# Altium schematic symbol library TM_DE_REV1.0.SchLib: 109 symbols
Pins are listed as number, name and electrical type; pins without a type are passive.

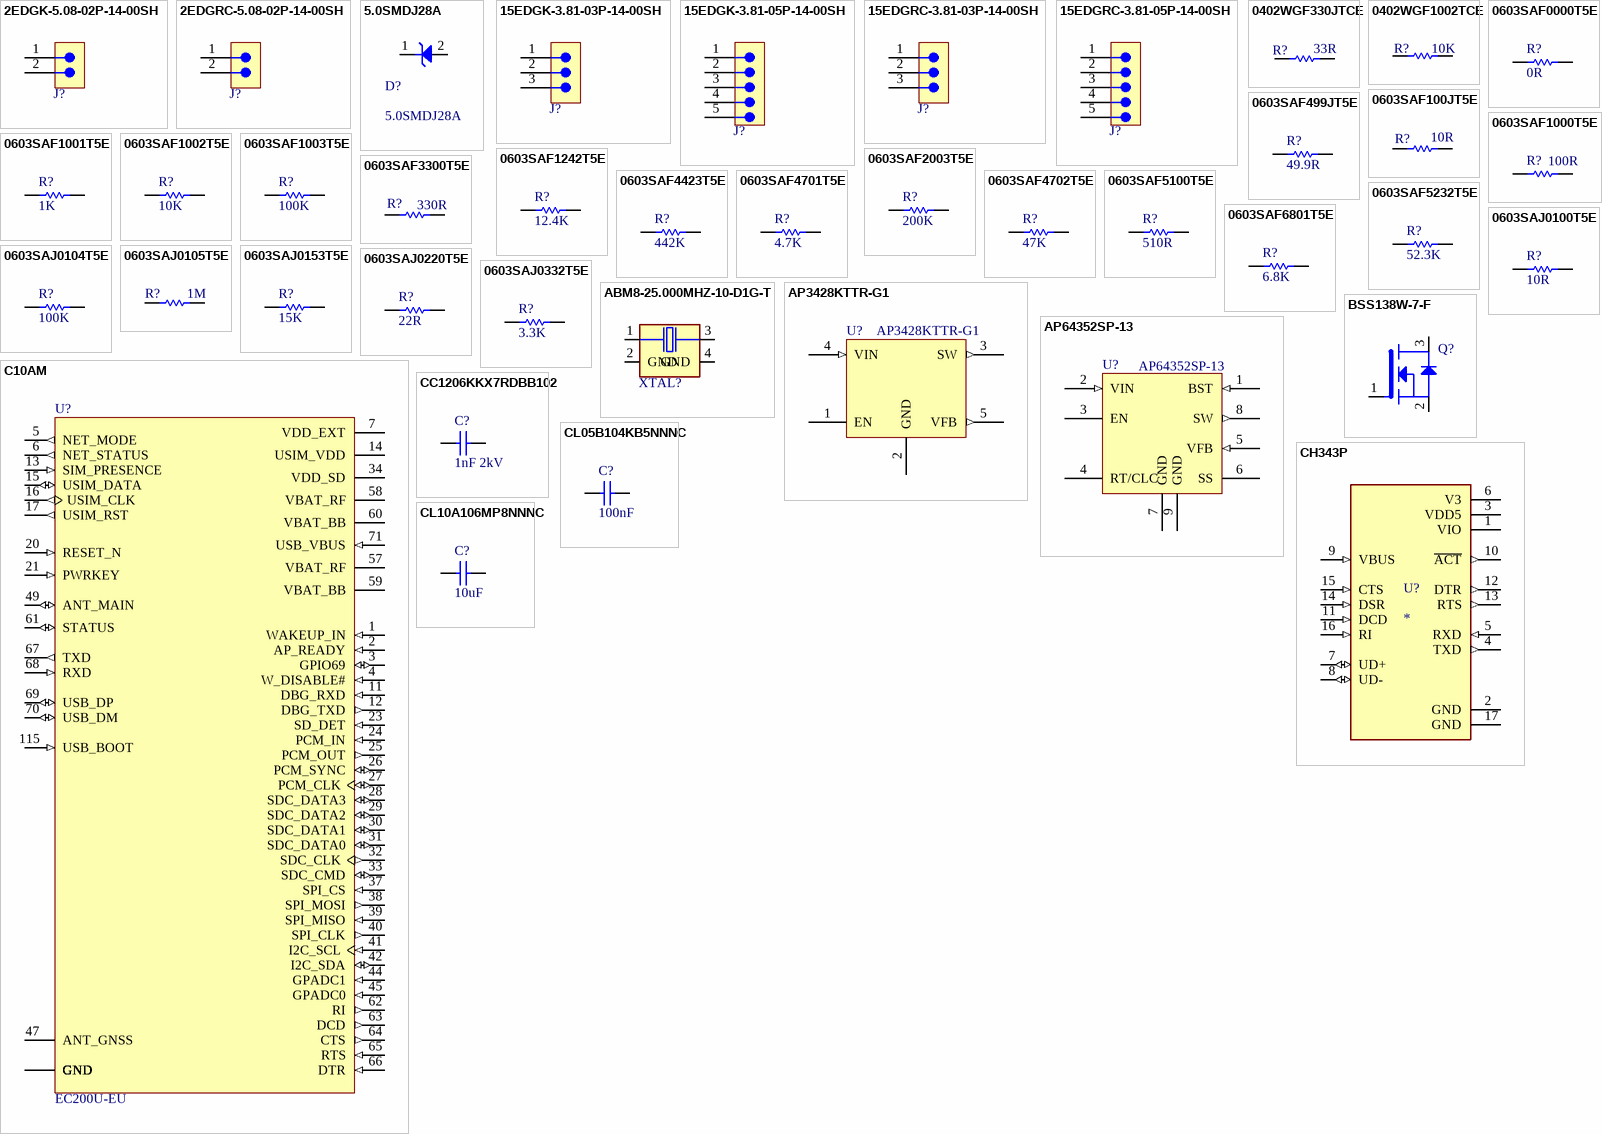
[diagram p0: symbols 2EDGK-5.08-02P-14-00SH to CL10A106MP8NNNC]

## 2EDGK-5.08-02P-14-00SH
designator J?  (value not drawn)
TERM.BLK.5.08MM 2P FEMALE GREEN; Manufacturer: GAOSONG; Manufacturer Part Number: 2EDGK-5.08-02P-14-00SH; Supplier 1: Ozdisan
footprint TERM_BLCK_2P_5.08_90_FEMALE
pins: 1, 2

## 2EDGRC-5.08-02P-14-00SH
designator J?  (value not drawn)
TERM.BLK.5.08MM 2P 90C MALE GREEN CLOSED; Manufacturer: GAOSONG; Manufacturer Part Number: 2EDGRC-5.08-02P-14-00SH; Supplier 1: Ozdisan
footprint TERM_BLCK_2P_5.08_90_MALE
pins: 1, 2

## 5.0SMDJ28A
designator D?
45.4V Clamp 110A Ipp Tvs Diode Surface Mount DO-214AB (SMC); Manufacturer: Bourns Inc.; Datasheet Link: https://www.diodes.com/part/view/SMCJ58A; Height: 2.5mm; Manufacturer Part Number: 5.0SMDJ28A; Mouser Part Number: N/A; Mouser Price/Stock: https://www.mouser.co.uk/ProductDetail/Diodes-Incorporated/SMCJ58A?qs=evjyFmOIEsnFZCuxUMyzBg%3D%3D
footprint SMCJ58A
pins: 1, 2

## 15EDGK-3.81-03P-14-00SH
designator J?  (value not drawn)
TERM.BLK.3.81MM 3P FEMALE GREEN; Manufacturer: GAOSONG; Manufacturer Part Number: 15EDGK-3.81-03P-14-00SH; Supplier 1: Ozdisan; Value: *
footprint TERM_BLCK_3P_3.81_90_FEMALE
pins: 1, 2, 3

## 15EDGK-3.81-05P-14-00SH
designator J?  (value not drawn)
TERM.BLK.3.81MM 5P FEMALE GREEN; Manufacturer: GAOSONG; Manufacturer Part Number: 15EDGK-3.81-05P-14-00SH; Supplier 1: Ozdisan; Value: *
footprint TERM_BLCK_5P_3.81_90_FEMALE
pins: 1, 2, 3, 4, 5

## 15EDGRC-3.81-03P-14-00SH
designator J?  (value not drawn)
TERM.BLK.3.81MM 3P 90C MALE GREEN CLOSED; Manufacturer: GAOSONG; Manufacturer Part Number: 15EDGRC-3.81-03P-14-00SH; Supplier 1: Ozdisan; Value: *
footprint TERM_BLCK_3P_3.81_90_MALE
pins: 1, 2, 3

## 15EDGRC-3.81-05P-14-00SH
designator J?  (value not drawn)
TERM.BLK.3.81MM 5P 90C MALE GREEN CLOSED; Manufacturer: GAOSONG; Manufacturer Part Number: 15EDGRC-3.81-05P-14-00SH; Supplier 1: Ozdisan; Value: *
footprint TERM_BLCK_5P_3.81_90_MALE
pins: 1, 2, 3, 4, 5

## 0402WGF330JTCE
designator R?  value 33R  (hidden comment: 0402WGF330JTCE)
RES.(1005) 0402 33 Ohms 1% 1/16W 200PPM; Manufacturer: ROYALOHM; Supplier 1: Ozdisan; Manufacturer Part Number: 0402WGF330JTCE
footprint RES_0402
pins: 1, 2

## 0402WGF1002TCE
designator R?  value 10K  (hidden comment: 0402WGF1002TCE)
RES.(1005) 0402 10K Ohms 1% 1/16W 100PPM; Manufacturer: ROYALOHM; Supplier 1: Ozdisan; Manufacturer Part Number: 0402WGF1002TCE
footprint RES_0402
pins: 1, 2

## 0603SAF0000T5E
designator R?  value 0R  (hidden comment: 0603SAF0000T5E)
RES.(1608) 0603 0 Ohms 1% 1/10W-S 800PPM; Manufacturer: ROYALOHM; Supplier 1: Ozdisan; Manufacturer Part Number: 0603SAF0000T5E
footprint RES_0603
pins: 1, 2

## 0603SAF100JT5E
designator R?  value 10R  (hidden comment: 0603SAF100JT5E)
RES.(1608) 0603 10 Ohms 1% 1/10W-S 400PPM; Manufacturer: ROYALOHM; Supplier 1: Ozdisan; Manufacturer Part Number: 0603SAF100JT5E
footprint RES_0603
pins: 1, 2

## 0603SAF499JT5E
designator R?  value 49.9R  (hidden comment: 0603SAF499JT5E)
RES.(1608) 0603 49.9 Ohms 1% 1/10W-S 100PPM; Manufacturer: ROYALOHM; Supplier 1: Ozdisan; Manufacturer Part Number: 0603SAF499JT5E
footprint RES_0603
pins: 1, 2

## 0603SAF1000T5E
designator R?  value 100R  (hidden comment: 0603SAF1000T5E)
RES.(1608) 0603 100 Ohms 1% 1/10W-S 200PPM; Manufacturer: ROYALOHM; Supplier 1: Ozdisan; Manufacturer Part Number: 0603SAF1000T5E
footprint RES_0603
pins: 1, 2

## 0603SAF1001T5E
designator R?  value 1K  (hidden comment: 0603SAF1001T5E)
RES.(1608) 0603 1K Ohms 1% 1/10W-S 100PPM; Manufacturer: ROYALOHM; Supplier 1: Ozdisan; Manufacturer Part Number: 0603SAF1001T5E
footprint RES_0603
pins: 1, 2

## 0603SAF1002T5E
designator R?  value 10K  (hidden comment: 0603SAF1002T5E)
RES.(1608) 0603 10K Ohms 1% 1/10W-S 100PPM; Manufacturer: ROYALOHM; Supplier 1: Ozdisan; Manufacturer Part Number: 0603SAF1002T5E
footprint RES_0603
pins: 1, 2

## 0603SAF1003T5E
designator R?  value 100K  (hidden comment: 0603SAF1003T5E)
RES.(1608) 0603 100K Ohms 1% 1/10W-S 100PPM; Manufacturer: ROYALOHM; Supplier 1: Ozdisan; Manufacturer Part Number: 0603SAF1003T5E
footprint RES_0603
pins: 1, 2

## 0603SAF1242T5E
designator R?  value 12.4K  (hidden comment: 0603SAF1242T5E)
RES.(1608) 0603 12.4K Ohms 1% 1/10W-S 100PPM; Manufacturer: ROYALOHM; Supplier 1: Ozdisan; Manufacturer Part Number: 0603SAF1242T5E
footprint RES_0603
pins: 1, 2

## 0603SAF2003T5E
designator R?  value 200K  (hidden comment: 0603SAF2003T5E)
RES.(1608) 0603 200K Ohms 1% 1/10W-S 100PPM; Manufacturer: ROYALOHM; Supplier 1: Ozdisan; Manufacturer Part Number: 0603SAF2003T5E
footprint RES_0603
pins: 1, 2

## 0603SAF3300T5E
designator R?  value 330R  (hidden comment: 0603SAF3300T5E)
RES.(1608) 0603 330 Ohms 1% 1/10W-S 100PPM; Manufacturer: ROYALOHM; Supplier 1: Ozdisan; Manufacturer Part Number: 0603SAF3300T5E
footprint RES_0603
pins: 1, 2

## 0603SAF4423T5E
designator R?  value 442K  (hidden comment: 0603SAF4423T5E)
RES.(1608) 0603 442K Ohms 1% 1/10W-S 100PPM; Manufacturer: ROYALOHM; Supplier 1: Ozdisan; Manufacturer Part Number: 0603SAF4423T5E
footprint RES_0603
pins: 1, 2

## 0603SAF4701T5E
designator R?  value 4.7K  (hidden comment: 0603SAF4701T5E)
RES.(1608) 0603 4.7K Ohms 1% 1/10W-S 100PPM; Manufacturer: ROYALOHM; Supplier 1: Ozdisan; Manufacturer Part Number: 0603SAF4701T5E
footprint RES_0603
pins: 1, 2

## 0603SAF4702T5E
designator R?  value 47K  (hidden comment: 0603SAF4702T5E)
RES.(1608) 0603 47K Ohms 1% 1/10W-S 100PPM; Manufacturer: ROYALOHM; Supplier 1: Ozdisan; Manufacturer Part Number: 0603SAF4702T5E
footprint RES_0603
pins: 1, 2

## 0603SAF5100T5E
designator R?  value 510R  (hidden comment: 0603SAF5100T5E)
RES.(1608) 0603 510 Ohms 1% 1/10W-S 100PPM; Manufacturer: ROYALOHM; Supplier 1: Ozdisan; Manufacturer Part Number: 0603SAF5100T5E
footprint RES_0603
pins: 1, 2

## 0603SAF5232T5E
designator R?  value 52.3K  (hidden comment: 0603SAF5232T5E)
RES.(1608) 0603 52.3K Ohms 1% 1/10W-S 100PPM; Manufacturer: ROYALOHM; Supplier 1: Ozdisan; Manufacturer Part Number: 0603SAF5232T5E
footprint RES_0603
pins: 1, 2

## 0603SAF6801T5E
designator R?  value 6.8K  (hidden comment: 0603SAF6801T5E)
RES.(1608) 0603 6.8K Ohms 1% 1/10W-S 100PPM; Manufacturer: ROYALOHM; Supplier 1: Ozdisan; Manufacturer Part Number: 0603SAF6801T5E
footprint RES_0603
pins: 1, 2

## 0603SAJ0100T5E
designator R?  value 10R  (hidden comment: 0603SAJ0100T5E)
RES.(1608) 0603 10 Ohms 5% 1/10W-S 400PPM; Manufacturer: ROYALOHM; Supplier 1: Ozdisan; Manufacturer Part Number: 0603SAJ0100T5E
footprint RES_0603
pins: 1, 2

## 0603SAJ0104T5E
designator R?  value 100K  (hidden comment: 0603SAJ0104T5E)
RES.(1608) 0603 100K Ohms 5% 1/10W-S 100PPM; Manufacturer: ROYALOHM; Supplier 1: Ozdisan; Manufacturer Part Number: 0603SAJ0104T5E
footprint RES_0603
pins: 1, 2

## 0603SAJ0105T5E
designator R?  value 1M  (hidden comment: 0603SAJ0105T5E)
RES.(1608) 0603 1M Ohms 5% 1/10W-S 100PPM; Manufacturer: ROYALOHM; Supplier 1: Ozdisan; Manufacturer Part Number: 0603SAJ0105T5E
footprint RES_0603
pins: 1, 2

## 0603SAJ0153T5E
designator R?  value 15K  (hidden comment: 0603SAJ0153T5E)
RES.(1608) 0603 15K Ohms 5% 1/10W-S 100PPM; Manufacturer: ROYALOHM; Supplier 1: Ozdisan; Manufacturer Part Number: 0603SAJ0153T5E
footprint RES_0603
pins: 1, 2

## 0603SAJ0220T5E
designator R?  value 22R  (hidden comment: 0603SAJ0220T5E)
RES.(1608) 0603 22 Ohms 5% 1/10W-S 200PPM; Manufacturer: ROYALOHM; Supplier 1: Ozdisan; Manufacturer Part Number: 0603SAJ0220T5E
footprint RES_0603
pins: 1, 2

## 0603SAJ0332T5E
designator R?  value 3.3K  (hidden comment: 0603SAJ0332T5E)
RES.(1608) 0603 3.3K Ohms 5% 1/10W-S 100PPM; Manufacturer: ROYALOHM; Supplier 1: Ozdisan; Manufacturer Part Number: 0603SAJ0332T5E
footprint RES_0603
pins: 1, 2

## ABM8-25.000MHZ-10-D1G-T
designator XTAL?  (value not drawn)
CRYSTAL 25.0000MHZ 10PF SMD; Manufacturer: RALTRON; Value: 25 MHz; Manufacturer Part Number: ABM8-25.000MHZ-10-D1G-T; Supplier 1: OZDISAN
footprint XTAL_ABM8G-25.000MHZ-4Y-T3
pins: 1, 2 GND (power), 3 2, 4 GND (power)

## AP3428KTTR-G1
designator U?
Buck Switching Regulator IC Positive Adjustable 0.6V 1 Output 1A SOT-23-5 Thin, TSOT-23-5; Manufacturer: Diodes Incorporated; Value: *; Supplier 1: DIGIKEY; Manufacturer Part Number: AP3428KTTR-G1
footprint TSOT_23_5 (SOT95P280X100-5N)
pins: 1 EN, 2 GND, 3 SW (out), 4 VIN (in), 5 VFB (out)

## AP64352SP-13
designator U?
Buck Switching Regulator IC Positive Adjustable 0.8V 1 Output 3.5A 8-SOIC (0.154", 3.90mm Width) Exposed Pad; Manufacturer: Diodes Incorporated; Value: *; Supplier 1: DIGIKEY; Manufacturer Part Number: AP64352SP-13
footprint SOIC_8_EXP (SOIC127P600X170-9N)
pins: 1 BST (in), 2 VIN (in), 3 EN, 4 RT/CLC, 5 VFB (in), 6 SS, 7 GND, 8 SW (out), 9 GND

## BSS138W-7-F
designator Q?  (value not drawn)
MOSFET DIS.200mA 50V N-CH SC70-3; Manufacturer: DIODES; Value: *; Supplier 1: OZDISAN; Manufacturer Part Number: BSS138W-7-F
footprint SOT323
pins: 1 G, 2 S, 3 D

## C10AM
designator U?, comment EC200U-EU
EC200U Moudle 144PIN 28x31mm H2.4mm RO; Manufacturer: Quectel; Value: EC200U-EU; Manufacturer Part Number: EC200U-EU
footprint C10AM
pins: 1 WAKEUP_IN (in), 2 AP_READY (in), 3 GPIO69 (io), 4 W_DISABLE# (in), 5 NET_MODE (out), 6 NET_STATUS (out), 7 VDD_EXT (power), 8 GND (power), 9 GND (power), 10 GND (power), 11 DBG_RXD (in), 12 DBG_TXD (out), 13 SIM_PRESENCE (in), 14 USIM_VDD (power), 15 USIM_DATA (io), 16 USIM_CLK (out), 17 USIM_RST (out), 19 GND (power), 20 RESET_N (in), 21 PWRKEY (in), 22 GND (power), 23 SD_DET (in), 24 PCM_IN (in), 25 PCM_OUT (out), 26 PCM_SYNC (io), 27 PCM_CLK (io), 28 SDC_DATA3 (io), 29 SDC_DATA2 (io), 30 SDC_DATA1 (io), 31 SDC_DATA0 (io), 32 SDC_CLK (out), 33 SDC_CMD (io), 34 VDD_SD (power), 36 GND (power), 37 SPI_CS (in), 38 SPI_MOSI (out), 39 SPI_MISO (in), 40 SPI_CLK (out), 41 I2C_SCL (in), 42 I2C_SDA (io), 44 GPADC1 (in), 45 GPADC0 (in), 46 GND (power), 47 ANT_GNSS, 48 GND (power), 49 ANT_MAIN (io), 50 GND (power), 51 GND (power), 52 GND (power), 53 GND (power), 54 GND (power), 56 GND (power), 57 VBAT_RF (power), 58 VBAT_RF (power), 59 VBAT_BB (power), 60 VBAT_BB (power), 61 STATUS (io), 62 RI (out), 63 DCD (out), 64 CTS (out), 65 RTS (in), 66 DTR (in), 67 TXD (out), 68 RXD (in), 69 USB_DP (io), 70 USB_DM (io), 71 USB_VBUS (in), 72 GND (power), 85 GND (power), 86 GND (power), 87 GND (power), 88 GND (power), 89 GND (power), 90 GND (power), 91 GND (power), 92 GND (power), 93 GND (power), 94 GND (power), 95 GND (power), 96 GND (power), 97 GND (power), 98 GND (power), 99 GND (power), 100 GND (power), 101 GND (power), 102 GND (power), 103 GND (power), 104 GND (power), 105 GND (power), 106 GND (power), 107 GND (power), 108 GND (power), 109 GND (power), 110 GND (power), 111 GND (power), 112 GND (power), 115 USB_BOOT (in)

## CC1206KKX7RDBB102
designator C?  value 1nF 2kV  (hidden comment: CC1206KKX7RDBB102)
MLCC (3216) 1206 1nF 2000VDC ±10% X7R; Manufacturer: SAMSUNG; Supplier 1: OZDISAN; Manufacturer Part Number: CC1206KKX7RDBB102
footprint CAP_1206
pins: 1, 2

## CH343P
designator U?
USB to High-Speed Serial Chip CH343; Manufacturer: WCH; Manufacturer Part Number: CH343P; SnapEDA_Link: https://www.snapeda.com/parts/CH343P/WCH/view-part/?ref=snap; Package: Package; Value: *; Check_prices: https://www.snapeda.com/parts/CH343P/WCH/view-part/?ref=eda
footprint QFN50P300X300X80-17N (Footprint not found)
pins: 1 VIO (power), 2 GND (power), 3 VDD5 (power), 4 TXD (out), 5 RXD (in), 6 V3 (power), 7 UD+ (io), 8 UD- (io), 9 VBUS (in), 10 ~{ACT} (out), 11 DCD (in), 12 DTR (out), 13 RTS (out), 14 DSR (in), 15 CTS (in), 16 RI (in), 17 GND (power)

## CL05B104KB5NNNC
designator C?  value 100nF  (hidden comment: CL05B104KB5NNNC)
MLCC (1005) 0402 100nF 50VDC ±10% X7R; Manufacturer: SAMSUNG; Supplier 1: OZDISAN; Manufacturer Part Number: CL05B104KB5NNNC
footprint CAP_0402
pins: 1, 2

## CL10A106MP8NNNC
designator C?  value 10uF  (hidden comment: CL10A106MP8NNNC)
MLCC (1608) 0603 10uF 10VDC ±20% X5R; Manufacturer: SAMSUNG; Supplier 1: OZDISAN; Manufacturer Part Number: CL10A106MP8NNNC
footprint CAP_0603
pins: 1, 2

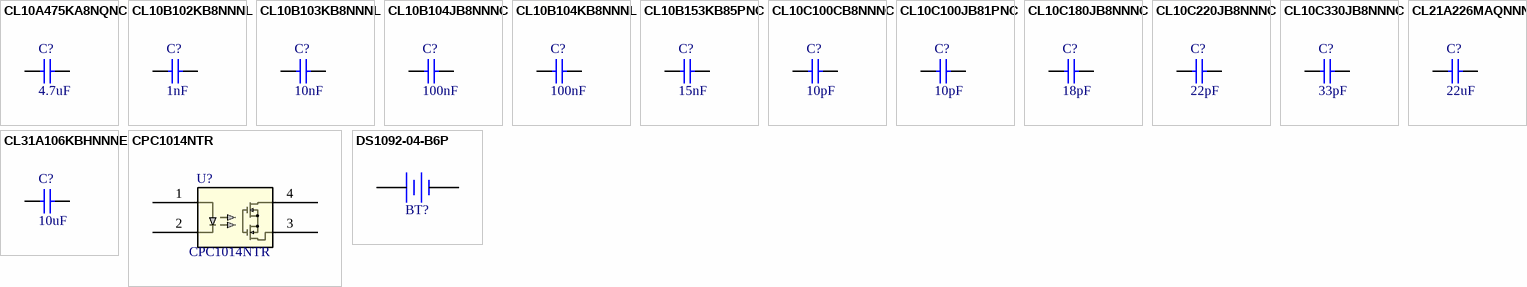
[diagram p1: symbols CL10A475KA8NQNC to DS1092-04-B6P]

## CL10A475KA8NQNC
designator C?  value 4.7uF  (hidden comment: CL10A475KA8NQNC)
MLCC (1608) 0603 4.7uF 25VDC ±10% X5R; Manufacturer: Samsung Electro-Mechanics America, Inc; Supplier 1: OZDISAN; Manufacturer Part Number: CL10A475KA8NQNC
footprint CAP_0603
pins: 1, 2

## CL10B102KB8NNNL
designator C?  value 1nF  (hidden comment: CL10B102KB8NNNL)
MLCC (1608) 0603 1nF 50VDC ±10% X7R; Manufacturer: SAMSUNG; Supplier 1: OZDISAN; Manufacturer Part Number: CL10B102KB8NNNL
footprint CAP_0603
pins: 1, 2

## CL10B103KB8NNNL
designator C?  value 10nF  (hidden comment: CL10B103KB8NNNL)
MLCC (1608) 0603 10nF 50VDC ±10% X7R; Manufacturer: SAMSUNG; Supplier 1: OZDISAN; Manufacturer Part Number: CL10B103KB8NNNL
footprint CAP_0603
pins: 1, 2

## CL10B104JB8NNNC
designator C?  value 100nF  (hidden comment: CL10B104JB8NNNC)
MLCC (1608) 0603 100nF 50VDC ±5% X7R; Manufacturer: SAMSUNG; Supplier 1: OZDISAN; Manufacturer Part Number: CL10B104JB8NNNC
footprint CAP_0603
pins: 1, 2

## CL10B104KB8NNNL
designator C?  value 100nF  (hidden comment: CL10B104KB8NNNL)
MLCC (1608) 0603 100nF 50VDC ±10% X7R; Manufacturer: Samsung Electro-Mechanics America, Inc; Supplier 1: OZDISAN; Manufacturer Part Number: CL10B104KB8NNNL
footprint CAP_0603
pins: 1, 2

## CL10B153KB85PNC
designator C?  value 15nF  (hidden comment: CL10B153KB85PNC)
MLCC (1608) 0603 15nF 50VDC ±10% X7R AUTOMOTIVE; Manufacturer: SAMSUNG; Supplier 1: OZDISAN; Manufacturer Part Number: CL10B153KB85PNC
footprint CAP_0603
pins: 1, 2

## CL10C100CB8NNNC
designator C?  value 10pF  (hidden comment: CL10C100CB8NNNC)
MLCC (1608) 0603 10pF 50VDC ±0.25pF C0G (NP0); Manufacturer: SAMSUNG; Supplier 1: Ozdisan; Manufacturer Part Number: CL10C100CB8NNNC
footprint CAP_0603
pins: 1, 2

## CL10C100JB81PNC
designator C?  value 10pF  (hidden comment: CL10C100JB81PNC)
MLCC (1608) 0603 10pF 50VDC ±5% C0G (NP0); Manufacturer: SAMSUNG; Supplier 1: Ozdisan; Manufacturer Part Number: CL10C100JB81PNC
footprint CAP_0603
pins: 1, 2

## CL10C180JB8NNNC
designator C?  value 18pF  (hidden comment: CL10C180JB8NNNC)
MLCC (1608) 0603 18pF 50VDC ±5% C0G (NP0); Manufacturer: Samsung Electro-Mechanics America, Inc; Supplier 1: OZDISAN; Manufacturer Part Number: CL10C180JB8NNNC
footprint CAP_0603
pins: 1, 2

## CL10C220JB8NNNC
designator C?  value 22pF  (hidden comment: CL10C220JB8NNNC)
MLCC (1608) 0603 22pF 50VDC ±5% C0G (NP0); Manufacturer: Samsung Electro-Mechanics America, Inc; Supplier 1: OZDISAN; Manufacturer Part Number: CL10C220JB8NNNC
footprint CAP_0603
pins: 1, 2

## CL10C330JB8NNNC
designator C?  value 33pF  (hidden comment: CL10C330JB8NNNC)
MLCC (1608) 0603 33pF 50VDC ±5% C0G (NP0); Manufacturer: Samsung Electro-Mechanics America, Inc; Supplier 1: OZDISAN; Manufacturer Part Number: CL10C330JB8NNNC
footprint CAP_0603
pins: 1, 2

## CL21A226MAQNNNE
designator C?  value 22uF  (hidden comment: CL21A226MAQNNNE)
MLCC (2012) 0805 22uF 25VDC ±20% X5R; Manufacturer: SAMSUNG; Supplier 1: OZDISAN; Manufacturer Part Number: CL21A226MAQNNNE
footprint CAP_0805
pins: 1, 2

## CL31A106KBHNNNE
designator C?  value 10uF  (hidden comment: CL31A106KBHNNNE)
MLCC (3216) 1206 10uF 50VDC ±10% X5R; Manufacturer: SAMSUNG; Supplier 1: OZDISAN; Manufacturer Part Number: CL31A106KBHNNNE
footprint CAP_1206
pins: 1, 2

## CPC1014NTR
designator U?
RELAY SOLID STATE 400mA 0-60V SPST-NO(1FormA); Manufacturer: IXYS CLARE; Value: *; Supplier 1: OZDISAN; Manufacturer Part Number: CPC1014NTR
footprint CPC1014N_IXY-M
pins: 1, 2, 3, 4

## DS1092-04-B6P
designator BT?  (value not drawn)
BATTERY HOLDER FOR CR2032 HORIZONTAL FEMALE; Manufacturer: CONNFLY; Manufacturer Part Number: DS1092-04-B6P; Supplier 1: Ozdisan
footprint DB1092
pins: 1, 2

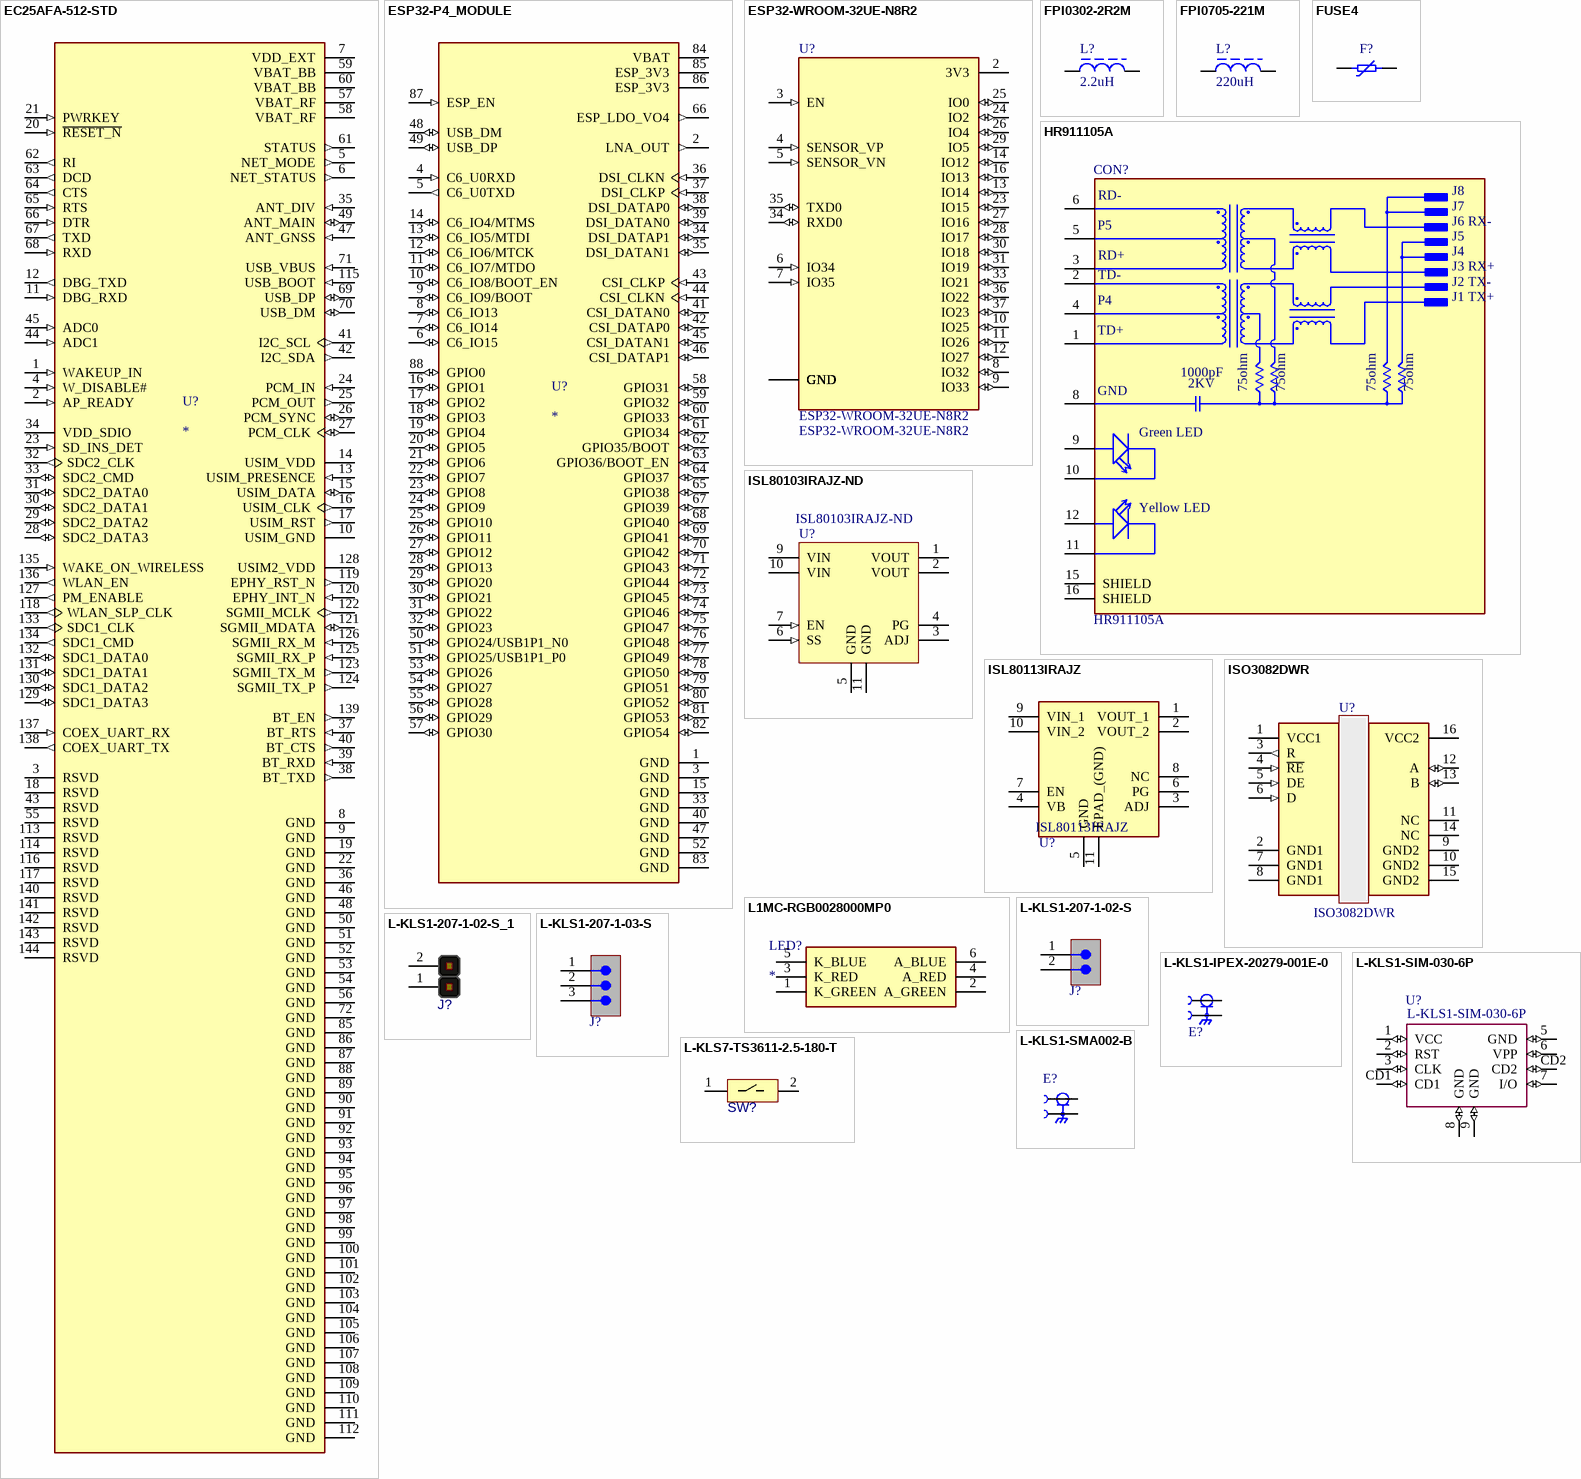
[diagram p2: symbols EC25AFA-512-STD to L-KLS7-TS3611-2.5-180-T]

## EC25AFA-512-STD
designator U?
Quectel EC25 is a series of 4G - LTE Cat 4 module optimized specially for M2M and IoT applications.; MP: EC25AFA-512-STD; Availability: In Stock; Package: Custom Quectel; SnapEDA_Link: https://www.snapeda.com/parts/EC25AFA-512-STD/Quectel/view-part/?ref=snap; MF: Quectel; Purchase-URL: https://pricing.snapeda.com/search/part/EC25AFA-512-STD/?ref=eda; Value: *; Check_prices: https://www.snapeda.com/parts/EC25AFA-512-STD/Quectel/view-part/?ref=eda; Price: None
footprint XCVR_EC25AFA-512-STD
pins: 1 WAKEUP_IN (in), 2 AP_READY (in), 3 RSVD, 4 W_DISABLE# (in), 5 NET_MODE (out), 6 NET_STATUS (out), 7 VDD_EXT (power), 8 GND (power), 9 GND (power), 10 USIM_GND (power), 11 DBG_RXD (in), 12 DBG_TXD (out), 13 USIM_PRESENCE (in), 14 USIM_VDD (power), 15 USIM_DATA (io), 16 USIM_CLK (out), 17 USIM_RST (out), 18 RSVD, 19 GND (power), 20 ~{RESET_N} (in), 21 PWRKEY (in), 22 GND (power), 23 SD_INS_DET (in), 24 PCM_IN (in), 25 PCM_OUT (out), 26 PCM_SYNC (io), 27 PCM_CLK (io), 28 SDC2_DATA3 (io), 29 SDC2_DATA2 (io), 30 SDC2_DATA1 (io), 31 SDC2_DATA0 (io), 32 SDC2_CLK (out), 33 SDC2_CMD (io), 34 VDD_SDIO (power), 35 ANT_DIV (in), 36 GND (power), 37 BT_RTS (in), 38 BT_TXD (out), 39 BT_RXD (in), 40 BT_CTS (out), 41 I2C_SCL (out), 42 I2C_SDA (out), 43 RSVD, 44 ADC1 (in), 45 ADC0 (in), 46 GND (power), 47 ANT_GNSS (in), 48 GND (power), 49 ANT_MAIN (io), 50 GND (power), 51 GND (power), 52 GND (power), 53 GND (power), 54 GND (power), 55 RSVD, 56 GND (power), 57 VBAT_RF (power), 58 VBAT_RF (power), 59 VBAT_BB (power), 60 VBAT_BB (power), 61 STATUS (out), 62 RI (out), 63 DCD (out), 64 CTS (out), 65 RTS (in), 66 DTR (in), 67 TXD (out), 68 RXD (in), 69 USB_DP (io), 70 USB_DM (io), 71 USB_VBUS (in), 72 GND (power), 85 GND (power), 86 GND (power), 87 GND (power), 88 GND (power), 89 GND (power), 90 GND (power), 91 GND (power), 92 GND (power), 93 GND (power), 94 GND (power), 95 GND (power), 96 GND (power), 97 GND (power), 98 GND (power), 99 GND (power), 100 GND (power), 101 GND (power), 102 GND (power), 103 GND (power), 104 GND (power), 105 GND (power), 106 GND (power), 107 GND (power), 108 GND (power), 109 GND (power), 110 GND (power), 111 GND (power), 112 GND (power), 113 RSVD, 114 RSVD, 115 USB_BOOT (in), 116 RSVD, 117 RSVD, 118 WLAN_SLP_CLK (out), 119 EPHY_RST_N (out), 120 EPHY_INT_N (in), 121 SGMII_MDATA (io), 122 SGMII_MCLK (out), 123 SGMII_TX_M (out), 124 SGMII_TX_P (out), 125 SGMII_RX_P (in), 126 SGMII_RX_M (in), 127 PM_ENABLE (out), 128 USIM2_VDD (power), 129 SDC1_DATA3 (io), 130 SDC1_DATA2 (io), 131 SDC1_DATA1 (io), 132 SDC1_DATA0 (io), 133 SDC1_CLK (out), 134 SDC1_CMD (out), 135 WAKE_ON_WIRELESS (in), 136 WLAN_EN (out), 137 COEX_UART_RX (in), 138 COEX_UART_TX (out), 139 BT_EN (out), 140 RSVD, 141 RSVD, 142 RSVD, 143 RSVD, 144 RSVD

## ESP32-P4_MODULE
designator U?
Dual-core RISC-V high-performance module ESP32-C6H8; Manufacturer: Waveshare Electronics; Manufacturer Part Number: ESP32-P4 Module; Value: *
footprint XCVR_ESP32-P4_MODULE
pins: 1 GND (power), 2 LNA_OUT (out), 3 GND (power), 4 C6_U0RXD (in), 5 C6_U0TXD (out), 6 C6_IO15 (io), 7 C6_IO14 (io), 8 C6_IO13 (io), 9 C6_IO9/BOOT (io), 10 C6_IO8/BOOT_EN (io), 11 C6_IO7/MTDO (io), 12 C6_IO6/MTCK (io), 13 C6_IO5/MTDI (io), 14 C6_IO4/MTMS (io), 15 GND (power), 16 GPIO1 (io), 17 GPIO2 (io), 18 GPIO3 (io), 19 GPIO4 (io), 20 GPIO5 (io), 21 GPIO6 (io), 22 GPIO7 (io), 23 GPIO8 (io), 24 GPIO9 (io), 25 GPIO10 (io), 26 GPIO11 (io), 27 GPIO12 (io), 28 GPIO13 (io), 29 GPIO20 (io), 30 GPIO21 (io), 31 GPIO22 (io), 32 GPIO23 (io), 33 GND (power), 34 DSI_DATAP1 (io), 35 DSI_DATAN1 (io), 36 DSI_CLKN (in), 37 DSI_CLKP (in), 38 DSI_DATAP0 (io), 39 DSI_DATAN0 (io), 40 GND (power), 41 CSI_DATAN0 (io), 42 CSI_DATAP0 (io), 43 CSI_CLKP (in), 44 CSI_CLKN (in), 45 CSI_DATAN1 (io), 46 CSI_DATAP1 (io), 47 GND (power), 48 USB_DM (io), 49 USB_DP (io), 50 GPIO24/USB1P1_N0 (io), 51 GPIO25/USB1P1_P0 (io), 52 GND (power), 53 GPIO26 (io), 54 GPIO27 (io), 55 GPIO28 (io), 56 GPIO29 (io), 57 GPIO30 (io), 58 GPIO31 (io), 59 GPIO32 (io), 60 GPIO33 (io), 61 GPIO34 (io), 62 GPIO35/BOOT (io), 63 GPIO36/BOOT_EN (io), 64 GPIO37 (io), 65 GPIO38 (io), 66 ESP_LDO_VO4 (out), 67 GPIO39 (io), 68 GPIO40 (io), 69 GPIO41 (io), 70 GPIO42 (io), 71 GPIO43 (io), 72 GPIO44 (io), 73 GPIO45 (io), 74 GPIO46 (io), 75 GPIO47 (io), 76 GPIO48 (io), 77 GPIO49 (io), 78 GPIO50 (io), 79 GPIO51 (io), 80 GPIO52 (io), 81 GPIO53 (io), 82 GPIO54 (io), 83 GND (power), 84 VBAT (power), 85 ESP_3V3 (power), 86 ESP_3V3 (power), 87 ESP_EN (in), 88 GPIO0 (io)

## ESP32-WROOM-32UE-N8R2
designator U?
Bluetooth, WiFi 802.11b/g/n, Bluetooth v4.2 + EDR, Class 1, 2 and 3 Transceiver Module 2.4GHz Antenna Not Included, U.FL Surface Mount; Manufacturer: Espressif Systems; Supplier 1: DIGIKEY; Value: *; Manufacturer Part Number: ESP32-WROOM-32UE-N8R2
footprint ESP32-WROOM-32UE
pins: 1 GND (power), 2 3V3 (power), 3 EN (in), 4 SENSOR_VP (in), 5 SENSOR_VN (in), 6 IO34 (in), 7 IO35 (in), 8 IO32 (io), 9 IO33 (io), 10 IO25 (io), 11 IO26 (io), 12 IO27 (io), 13 IO14 (io), 14 IO12 (io), 15 GND (power), 16 IO13 (io), 23 IO15 (io), 24 IO2 (io), 25 IO0 (io), 26 IO4 (io), 27 IO16 (io), 28 IO17 (io), 29 IO5 (io), 30 IO18 (io), 31 IO19 (io), 33 IO21 (io), 34 RXD0 (io), 35 TXD0 (io), 36 IO22 (io), 37 IO23 (io), 38 GND (power), 39_1 GND (power), 39_2 GND (power), 39_3 GND (power), 39_4 GND (power), 39_5 GND (power), 39_6 GND (power), 39_7 GND (power), 39_8 GND (power), 39_9 GND (power), 39_10 GND (power), 39_11 GND (power), 39_12 GND (power), 39_13 GND (power), 39_14 GND (power), 39_15 GND (power), 39_16 GND (power), 39_17 GND (power), 39_18 GND (power), 39_19 GND (power), 39_20 GND (power), 39_21 GND (power)

## FPI0302-2R2M
designator L?  value 2.2uH  (hidden comment: FPI0302-2R2M)
NDUCTOR POWER 2.2UH 3.3X3MM SMD; Manufacturer: CORE MASTER; Supplier 1: OZDISAN; Manufacturer Part Number: FPI0302-2R2M
footprint IND_ 3.3X3_SMD
pins: 1, 2

## FPI0705-221M
designator L?  value 220uH  (hidden comment: FPI0705-221M)
INDUCTOR POWER 220UH 7X7.8X5MM SMD; Manufacturer: CORE MASTER; Supplier 1: OZDISAN; Manufacturer Part Number: FPI0705-221M
footprint IND_7.8_7MM_SMD
pins: 1, 2

## FUSE4
designator F?, comment FSMD050-30-R  (value not drawn)
THERMISTOR PTC RESETTABLE FUSE 1812 500mA 30V; Manufacturer: Fuzetec; Supplier 1: Ozdisan; Manufacturer Part Number: FSMD050-30-R
footprint 1812L
pins: 1, 2

## HR911105A
designator CON?
MODULAR JACK THT R/A 8P8C (RJ45,Ethernet) GRAY; Manufacturer: HANRUN; Value: *; Supplier 1: OZDISAN; Manufacturer Part Number: HR911105A
footprint HANRUN_HR911105A
pins: 1 TD+, 2 TD-, 3 RD+, 4 P4, 5 P5, 6 RD-, 8 GND (power), 9 GA, 10 GC, 11 YC, 12 YA, 15 SHIELD, 16 SHIELD
text: J8; J7; J6 RX-; J5; J4; J3 RX+; J2 TX-; J1 TX+; 1000pF; 2KV; 75ohm; Green LED; Yellow LED

## ISL80103IRAJZ-ND
designator U?
Linear Voltage Regulator IC Positive Adjustable 1 Output 3A 10-DFN (3x3); Manufacturer: Renesas Electronics Corporation; Value: *; Supplier 1: DIGIKEY; Manufacturer Part Number: ISL80103IRAJZ-ND
footprint VFDFN_10
pins: 1 VOUT, 2 VOUT, 3 ADJ, 4 PG, 5 GND, 6 SS (in), 7 EN (in), 9 VIN, 10 VIN, 11 GND

## ISL80113IRAJZ
designator U?
Linear Voltage Regulator IC Positive Adjustable 1 Output 3A 10-DFN (3x3); Manufacturer: Renesas Electronics Corporation; Value: IC REG LINEAR POS ADJ 3A 10DFN; Supplier 1: DIGIKEY; Manufacturer Part Number: ISL80113IRAJZ
footprint ISL80101IRAJZ
pins: 1 VOUT_1, 2 VOUT_2, 3 ADJ, 4 VB, 5 GND, 6 PG, 7 EN, 8 NC, 9 VIN_1, 10 VIN_2, 11 EPAD_(GND)

## ISO3082DWR
designator U?
2/2 Transceiver, Isolated Half RS422, RS485 16-SOIC; Manufacturer: Texas Instruments; Value: *; Supplier 1: DIGIKEY; Manufacturer Part Number: ISO3082DWR
footprint SOIC_16
pins: 1 VCC1 (power), 2 GND1 (power), 3 R (out), 4 ~{RE} (in), 5 DE (in), 6 D (in), 7 GND1 (power), 8 GND1 (power), 9 GND2 (power), 10 GND2 (power), 11 NC, 12 A (io), 13 B (io), 14 NC, 15 GND2 (power), 16 VCC2 (power)

## L1MC-RGB0028000MP0
designator LED?
LED; Manufacturer_Name: Lumileds; Manufacturer_Part_Number: L1MC-RGB0028000MP0; Datasheet Link: https://lumileds.com/wp-content/uploads/2022/03/DS388-luxeon-3528-rgb-datasheet.pdf; Height: 1.85mm; Mouser Part Number: 997-L1MCRGB00280MP; Mouser Price/Stock: https://www.mouser.co.uk/ProductDetail/Lumileds/L1MC-RGB0028000MP0?qs=Znm5pLBrcAJSGF05jr80lQ%3D%3D; Arrow Part Number: L1MC-RGB0028000MP0; Arrow Price/Stock: https://www.arrow.com/en/products/l1mc-rgb0028000mp0/lumileds.html?utm_currency=USD&region=nac
footprint L1MCRGB0028000MP0
pins: 1 K_GREEN, 2 A_GREEN, 3 K_RED, 4 A_RED, 5 K_BLUE, 6 A_BLUE

## L-KLS1-207-1-02-S
designator J?  (value not drawn)
PIN HEADER 2PIN(1x2) 2.54mm THT V/T; Manufacturer: KLS ELECTRONIC; Manufacturer Part Number: L-KLS1-207-1-02-S; Supplier 1: Ozdisan; Value: *
footprint PINHEAD_2.54mm_1x2
pins: 1, 2

## L-KLS1-207-1-02-S_1
designator J?, comment L-KLS1-207-1-02-S  (value not drawn)
PIN HEADER 2PIN(1x2) 2.54mm THT V/T; Manufacturer: KLS ELECTRONIC; Manufacturer Part Number: L-KLS1-207-1-02-S; Supplier 1: Ozdisan; Value: *
footprint PIN HEADER 2PIN(1x2) 2.54mm THT V/T
pins: 1, 2

## L-KLS1-207-1-03-S
designator J?  (value not drawn)
PIN HEADER 3PIN(1x3) 2.54mm THT V/T; Manufacturer: KLS ELECTRONIC; Manufacturer Part Number: L-KLS1-207-1-03-S; Supplier 1: Ozdisan; Value: *
footprint PINHEAD_2.54mm_1x3
pins: 1, 2, 3

## L-KLS1-IPEX-20279-001E-0
designator E?  (value not drawn)
CONNECTOR MICRO COAXIAL RECEPTACLE; Manufacturer: KLS ELECTRONIC; Manufacturer Part Number: L-KLS1-IPEX-20279-001E-0; Supplier 1: OZDISAN
footprint LINX_CONUFL001-SMD-T
pins: 1, 2, 3

## L-KLS1-SIM-030-6P
designator U?
CONNECTOR HOLDER SIM CARD 8+2; Manufacturer: KLS ELECTRONIC; Manufacturer Part Number: L-KLS1-SIM-030-6P; Supplier 1: OZDISAN; Value: *
footprint SIM_CARD_CNN (6+2)
pins: 1 VCC (io), 2 RST (io), 3 CLK (io), 5 GND (io), 6 VPP (io), 7 I/O (io), 8 GND (io), 9 GND (io), CD1 (io), CD2 (io)

## L-KLS1-SMA002-B
designator E?  (value not drawn)
CONNECTOR ANTENNA SMA JACK R/A 50M; Manufacturer: KLS ELECTRONIC; Manufacturer Part Number: L-KLS1-SMA002-B; Supplier 1: OZDISAN
footprint SMA_JACK_90
pins: 1, S1 2, S2 2, S3 2, S4 2

## L-KLS7-TS3611-2.5-180-T
designator SW?  (value not drawn)
SWITCH TACT 6.1X3.65MM 2.5MM 180gF SMD; Manufacturer: KLS ELECTRONIC; Manufacturer Part Number: L-KLS7-TS3611-2.5-180-T; Supplier 1: OZDISAN
footprint SW_TCTL_SMD_2
pins: 1, 2

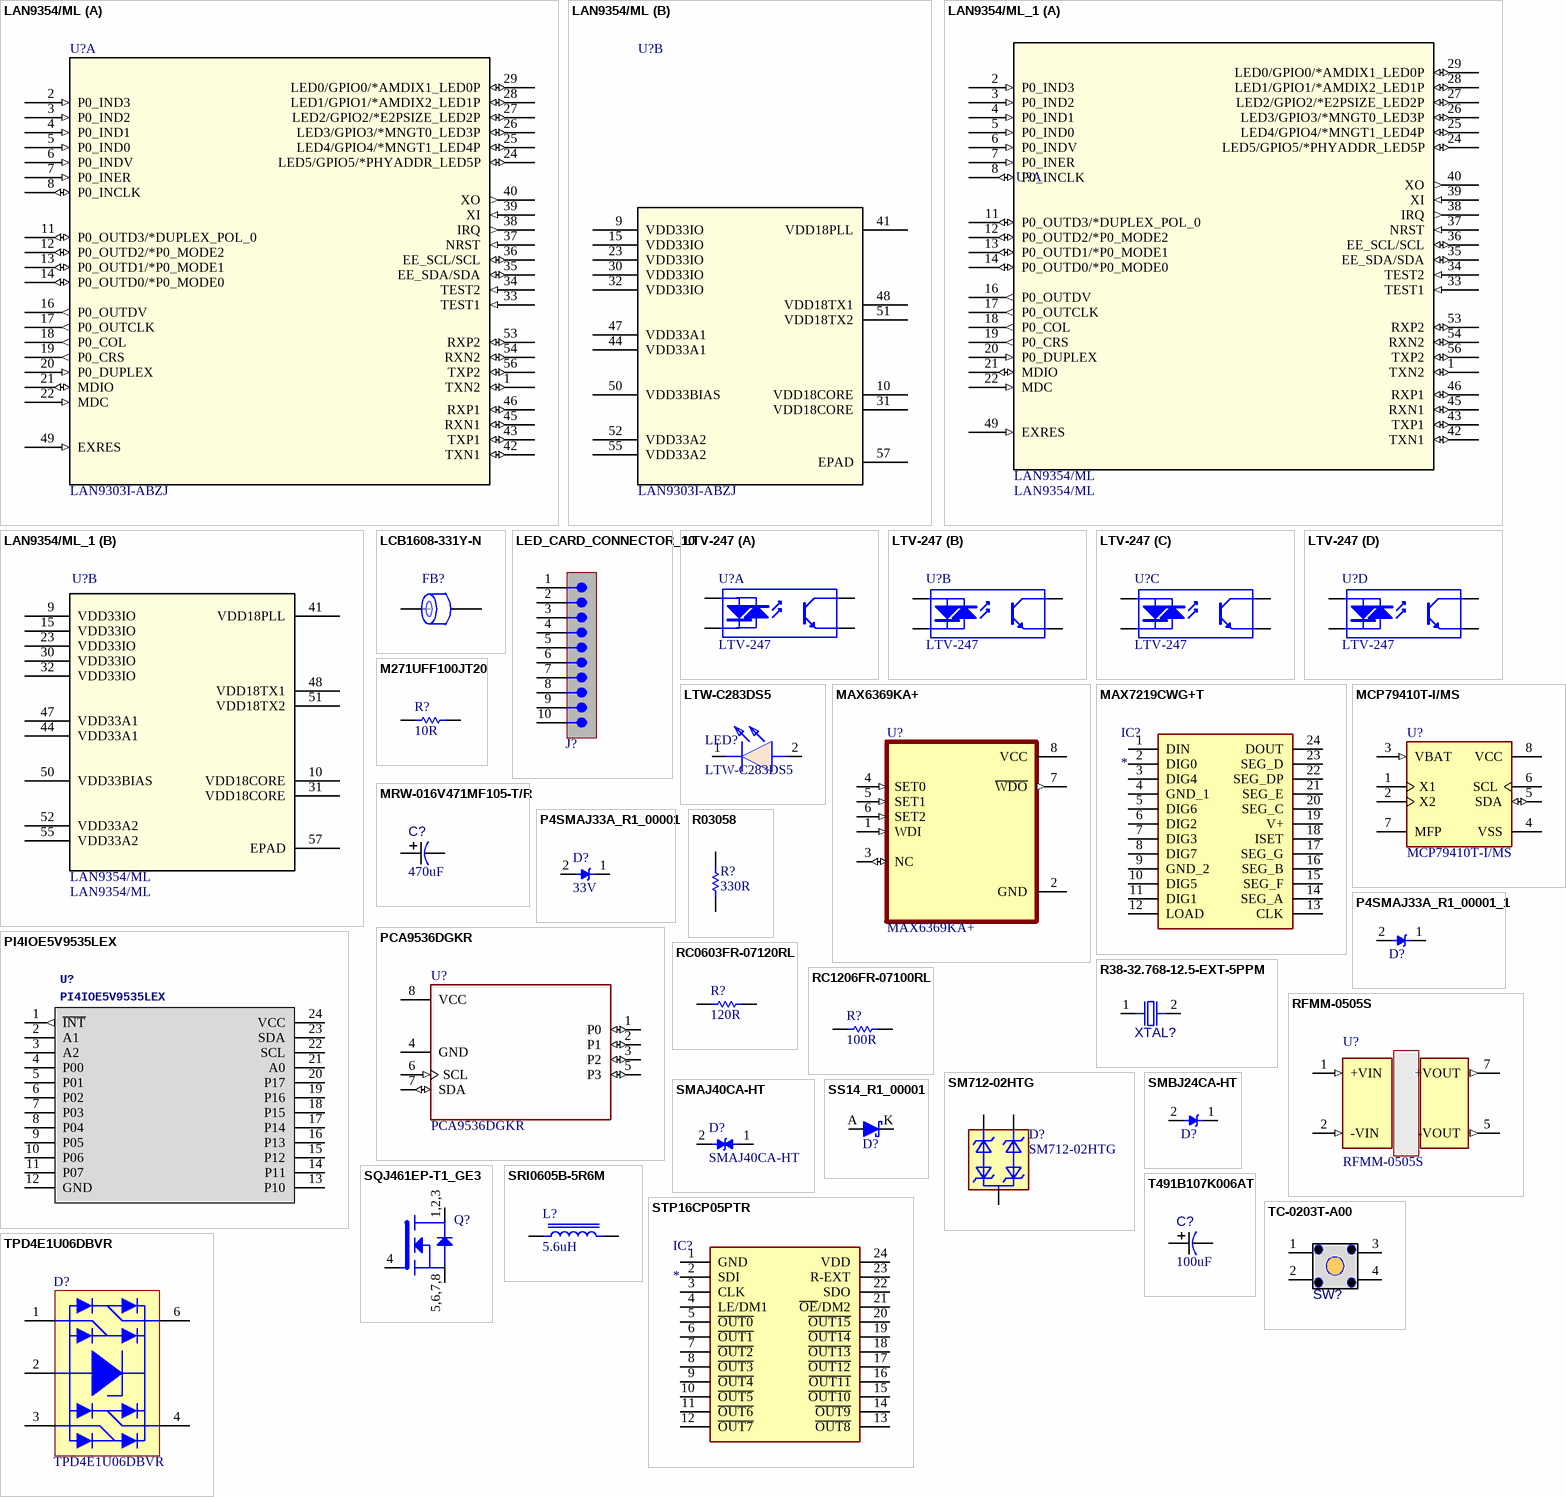
[diagram p3: symbols LAN9354/ML to TPD4E1U06DBVR]

## LAN9354/ML
designator U?, comment LAN9303I-ABZJ
Ethernet Switch 10/100 Base-T/TX PHY I²C Interface 56-QFN (8x8); Manufacturer: Microchip Technology; Value: LAN9303I-ABZJ; Manufacturer Part Number: LAN9303I-ABZJ
footprint QFN_56
part A pins: 1 TXN2 (io), 2 P0_IND3 (in), 3 P0_IND2 (in), 4 P0_IND1 (in), 5 P0_IND0 (in), 6 P0_INDV (in), 7 P0_INER (in), 8 P0_INCLK (io), 11 P0_OUTD3/*DUPLEX_POL_0 (io), 12 P0_OUTD2/*P0_MODE2 (io), 13 P0_OUTD1/*P0_MODE1 (io), 14 P0_OUTD0/*P0_MODE0 (io), 16 P0_OUTDV (out), 17 P0_OUTCLK (out), 18 P0_COL (out), 19 P0_CRS (out), 20 P0_DUPLEX (in), 21 MDIO (io), 22 MDC (in), 24 LED5/GPIO5/*PHYADDR_LED5P (io), 25 LED4/GPIO4/*MNGT1_LED4P (io), 26 LED3/GPIO3/*MNGT0_LED3P (io), 27 LED2/GPIO2/*E2PSIZE_LED2P (io), 28 LED1/GPIO1/*AMDIX2_LED1P (io), 29 LED0/GPIO0/*AMDIX1_LED0P (io), 33 TEST1 (in), 34 TEST2 (in), 35 EE_SDA/SDA (io), 36 EE_SCL/SCL (io), 37 NRST (in), 38 IRQ (out), 39 XI (in), 40 XO (out), 42 TXN1 (io), 43 TXP1 (io), 45 RXN1 (io), 46 RXP1 (io), 49 EXRES (in), 53 RXP2 (io), 54 RXN2 (io), 56 TXP2 (io)
part B pins: 9 VDD33IO (power), 10 VDD18CORE (power), 15 VDD33IO (power), 23 VDD33IO (power), 30 VDD33IO (power), 31 VDD18CORE (power), 32 VDD33IO (power), 41 VDD18PLL (power), 44 VDD33A1 (power), 47 VDD33A1 (power), 48 VDD18TX1 (power), 50 VDD33BIAS (power), 51 VDD18TX2 (power), 52 VDD33A2 (power), 55 VDD33A2 (power), 57 EPAD

## LAN9354/ML_1
designator U?, comment LAN9354/ML
Ethernet Switch 10/100 Base-T/TX PHY I2C Interface 56-QFN (8x8); Manufacturer: Microchip Technology; Supplier 1: DIGIKEY; Value: *; Manufacturer Part Number: LAN9354/ML
footprint QFN_56
part A pins: 1 TXN2 (io), 2 P0_IND3 (in), 3 P0_IND2 (in), 4 P0_IND1 (in), 5 P0_IND0 (in), 6 P0_INDV (in), 7 P0_INER (in), 8 P0_INCLK (io), 11 P0_OUTD3/*DUPLEX_POL_0 (io), 12 P0_OUTD2/*P0_MODE2 (io), 13 P0_OUTD1/*P0_MODE1 (io), 14 P0_OUTD0/*P0_MODE0 (io), 16 P0_OUTDV (out), 17 P0_OUTCLK (out), 18 P0_COL (out), 19 P0_CRS (out), 20 P0_DUPLEX (in), 21 MDIO (io), 22 MDC (in), 24 LED5/GPIO5/*PHYADDR_LED5P (io), 25 LED4/GPIO4/*MNGT1_LED4P (io), 26 LED3/GPIO3/*MNGT0_LED3P (io), 27 LED2/GPIO2/*E2PSIZE_LED2P (io), 28 LED1/GPIO1/*AMDIX2_LED1P (io), 29 LED0/GPIO0/*AMDIX1_LED0P (io), 33 TEST1 (in), 34 TEST2 (in), 35 EE_SDA/SDA (io), 36 EE_SCL/SCL (io), 37 NRST (in), 38 IRQ (out), 39 XI (in), 40 XO (out), 42 TXN1 (io), 43 TXP1 (io), 45 RXN1 (io), 46 RXP1 (io), 49 EXRES (in), 53 RXP2 (io), 54 RXN2 (io), 56 TXP2 (io)
part B pins: 9 VDD33IO (power), 10 VDD18CORE (power), 15 VDD33IO (power), 23 VDD33IO (power), 30 VDD33IO (power), 31 VDD18CORE (power), 32 VDD33IO (power), 41 VDD18PLL (power), 44 VDD33A1 (power), 47 VDD33A1 (power), 48 VDD18TX1 (power), 50 VDD33BIAS (power), 51 VDD18TX2 (power), 52 VDD33A2 (power), 55 VDD33A2 (power), 57 EPAD

## LCB1608-331Y-N
designator FB?  (value not drawn)
FERRITE BEAD 0603 330R/100MHZ SMD; Manufacturer: CORE MASTER; Value: 330R; Supplier 1: OZDISAN; Manufacturer Part Number: LCB1608-331Y-N
footprint FB_0603
pins: 1, 2

## LED_CARD_CONNECTOR_10
designator J?, comment LED_CARD_CONNECTOR_5  (value not drawn)  (no BOM)
Value: *
footprint _1.27mm_hole_10
pins: 1, 2, 3, 4, 5, 6, 7, 8, 9, 10

## LTV-247
designator U?
Optoisolator Transistor Output 3750Vrms 4 Channel 16-SO; Manufacturer: Lite-On Inc.; Supplier 1: Digi-Key; Value: *; Manufacturer Part Number: LTV-247
footprint 16-SOIC(4.40mm Width)
part A pins: 1 A "Anode", 2 K "Cathode", 15 E "Emitter", 16 C "Collector"
part B pins: 3 A "Anode", 4 K "Cathode", 13 E "Emitter", 14 C "Collector"
part C pins: 5 A "Anode", 6 K "Cathode", 11 E "Emitter", 12 C "Collector"
part D pins: 7 A "Anode", 8 K "Cathode", 9 E "Emitter", 10 C "Collector"

## LTW-C283DS5
designator LED?
LED WHITE YELLOW LENS 0402 SMD; Manufacturer: LITEON; Value: 0402; Manufacturer Part Number: LTW-C283DS5
footprint APHHS1005LSECKJ3PF
pins: 1 K, 2 A

## M271UFF100JT20
designator R?  value 10R  (hidden comment: M271UFF100JT20)
RES.(MELF) 0207 10 Ohms 1% 1W; Manufacturer: ROYALOHM; Supplier 1: Ozdisan; Manufacturer Part Number: M271UFF100JT20
footprint RES_0207 (MELF-2)
pins: 1, 2

## MAX6369KA+
designator U?
Supervisor Open Drain or Open Collector 1 Channel SOT-23-8; Manufacturer: Analog Devices Inc./Maxim Integrated; Value: *; Supplier 1: DIGIKEY; Manufacturer Part Number: MAX6369KA+
footprint SOT23_8
pins: 1 WDI (in), 2 GND (power), 3 NC (io), 4 SET0 (in), 5 SET1 (in), 6 SET2 (in), 7 ~{WDO} (out), 8 VCC (power)

## MAX7219CWG+T
designator IC?
Integrated Circuit; Manufacturer_Name: Analog Devices; Manufacturer_Part_Number: MAX7219CWG+T; Datasheet Link: http://componentsearchengine.com/Datasheets/1/MAX7219CWG+T.pdf; Height: 2.65mm; Mouser Part Number: 700-MAX7219CWGT; Mouser Price/Stock: https://www.mouser.co.uk/ProductDetail/Analog-Devices-Maxim-Integrated/MAX7219CWG%2bT?qs=p6VZ%252BklCkRRSntwSIyvWcQ%3D%3D; Arrow Part Number: MAX7219CWG+T; Arrow Price/Stock: https://www.arrow.com/en/products/max7219cwgt/analog-devices?utm_currency=USD&region=nac
footprint SOIC127P1032X265-24N
pins: 1 DIN, 2 DIG0, 3 DIG4, 4 GND_1, 5 DIG6, 6 DIG2, 7 DIG3, 8 DIG7, 9 GND_2, 10 DIG5, 11 DIG1, 12 LOAD, 13 CLK, 14 SEG_A, 15 SEG_F, 16 SEG_B, 17 SEG_G, 18 ISET, 19 V+, 20 SEG_C, 21 SEG_E, 22 SEG_DP, 23 SEG_D, 24 DOUT

## MCP79410T-I/MS
designator U?
Real Time Clock (RTC) IC Clock/Calendar 64B, 1Kb I²C, 2-Wire Serial 8-TSSOP, 8-MSOP (0.118", 3.00mm Width); Manufacturer: Microchip Technology; Value: *; Supplier 1: DIGIKEY; Manufacturer Part Number: MCP79410T-I/MS
footprint 8_MSOP
pins: 1 X1, 2 X2, 3 VBAT (in), 4 VSS (power), 5 SDA (io), 6 SCL, 7 MFP, 8 VCC (power)

## MRW-016V471MF105-T/R
designator C?  value 470uF  (hidden comment: MRW-016V471MF105-T/R)
CAP.EL.470uF 16V 8x10.5 105C 2000Hrs SMD; Manufacturer: KOSHIN; Manufacturer Part Number: MRW-016V471MF105-T/R; Supplier 1: Ozdisan
footprint CAP_ELEC_8X10.5 mm
pins: 1, 2
1 alternate drawing of the same symbol

## P4SMAJ33A_R1_00001
designator D?  value 33V  (hidden comment: P4SMAJ33A_R1_00001)
DIODE TVS 400W 33V DO-214AC SMA PANJIT; Supplier 1: OZDISAN; Manufacturer Part Number: P4SMAJ33A_R1_00001; Manufacturer: PANJIT
footprint DO214AC_SMA___
pins: 1, 2

## P4SMAJ33A_R1_00001_1
designator D?, comment P4SMAJ33A_R1_00001  (value not drawn)
DIODE TVS 400W 33V DO-214AC SMA PANJIT; Value: 33V; Supplier 1: OZDISAN; Manufacturer Part Number: P4SMAJ33A_R1_00001; Manufacturer: PANJIT
footprint DO214AC_SMA___
pins: 1, 2

## PCA9536DGKR
designator U?
I/O Expander 4 I2C, SMBus 400 kHz 8-VSSOP; Manufacturer: Diodes Incorporated; Value: *; Supplier 1: DIGIKEY; Manufacturer Part Number: PCA9536DGKR
footprint 8-TSSOP
pins: 1 P0 (io), 2 P1 (io), 3 P2 (io), 4 GND (power), 5 P3 (io), 6 SCL (in), 7 SDA (io), 8 VCC (power)

## PI4IOE5V9535LEX
designator U?
I/O Expander 16 I²C 400 kHz 24-TSSOP; Manufacturer: Diodes Incorporated; Supplier 1: Digi-Key; Manufacturer Part Number: PI4IOE5V9535LEX; Value: *
footprint TSSOP_24
pins: 1 ~{INT} (out), 2 A1, 3 A2, 4 P00, 5 P01, 6 P02, 7 P03, 8 P04, 9 P05, 10 P06, 11 P07, 12 GND (power), 13 P10, 14 P11, 15 P12, 16 P13, 17 P14, 18 P15, 19 P16, 20 P17, 21 A0, 22 SCL, 23 SDA, 24 VCC (power)

## R38-32.768-12.5-EXT-5PPM
designator XTAL?  (value not drawn)
CRYSTAL 32.768KHZ 12.5pF BULK 5ppm 3X8 EXT; Manufacturer: RALTRON; Manufacturer Part Number: R38-32.768-12.5-EXT-5PPM; Supplier 1: OZDISAN
footprint R38_THT_2
pins: 1, 2

## R03058
designator R?, comment value 330R  (hidden comment: RES)
RES 0402 330 Ohms 5% 1/16W 200PPM; Manufacturer: ROYALOHM; Manufacturer Part Number: 0402WGJ0331TCE; Supplier 1: Ozdisan
footprint RES_0402
pins: 1, 2

## RC0603FR-07120RL
designator R?  value 120R  (hidden comment: RC0603FR-07120RL)
RES.(1608) 0603 120 Ohms 1% 1/10W 100PPM SMT; Manufacturer: YAGEO; Supplier 1: Ozdisan; Manufacturer Part Number: RC0603FR-07120RL
footprint RES_0603
pins: 1, 2

## RC1206FR-07100RL
designator R?  value 100R  (hidden comment: RC1206FR-07100RL)
RES.(3216) 1206 100 Ohms 1% 1/4W 100PPM SMT; Manufacturer: YAGEO; Supplier 1: Ozdisan; Manufacturer Part Number: RC1206FR-07100RL
footprint RES_1206
pins: 1, 2

## RFMM-0505S
designator U?
Isolated Module DC DC Converter 1 Output 5V 200mA - 5V Input; Manufacturer: Recom Power; Value: *; Supplier 1: DIGIKEY; Manufacturer Part Number: RFMM-0505S
footprint CONV_RFMM-0505S
pins: 1 +VIN (in), 2 -VIN (in), 5 -VOUT (out), 7 +VOUT (out)

## SM712-02HTG
designator D?
31V, 19V Clamp 19A (8/20µs) Ipp Tvs Diode Surface Mount SOT-23-3; Manufacturer: Littelfuse Inc.; Value: *; Supplier 1: DIGIKEY; Manufacturer Part Number: SM712-02HTG
footprint SOT23_3
pins: 1, 2, 3

## SMAJ40CA-HT
designator D?
DIODE TVS 400W 40V DO214AC SMA; Manufacturer Part Number: SMAJ33CA/TR7; Manufacturer: YAGEO; Value: *; Supplier 1: OZDISAN
footprint DO214AC_SMA_UNI
pins: 1, 2

## SMBJ24CA-HT
designator D?, comment SMBJ40CA-HT  (value not drawn)
DIODE TVS 600W 40V DO214AA SMB; Manufacturer: HOTTECH; Value: *; Supplier 1: OZDISAN; Manufacturer Part Number: SMBJ40CA-HT
footprint DO214AA_SMB
pins: 1, 2

## SQJ461EP-T1_GE3
designator Q?  (value not drawn)
P-Channel 60 V 30A (Tc) 83W (Tc) Surface Mount PowerPAK® SO-8; Manufacturer: Vishay Siliconix; Value: MOSFET P-CH 60V 30A PPAK SO-8; Supplier 1: OZDISAN; Manufacturer Part Number: SQJ461EP-T1_GE3
footprint SOT323
pins: 1,2,3 D, 4 G, 5,6,7,8 S

## SRI0605B-5R6M
designator L?  value 5.6uH  (hidden comment: SRI0605B-5R6M)
INDUCTOR POWER 5.6UH 6.6X6.2X5MM SMD; Manufacturer: CORE MASTER; Supplier 1: OZDISAN; Manufacturer Part Number: SRI0605B-5R6M
footprint IND_SRP6540-5R6M
pins: 1, 2

## SS14_R1_00001
designator D?  (value not drawn)
DIODE SCHOTTKY 1A 40V DO-214AC SMA CASE PANJIT; Value: *; Supplier 1: OZDISAN; Manufacturer Part Number: SS14_R1_00001; Manufacturer: PANJIT
footprint DO214AC_SMA
pins: A, K

## STP16CP05PTR
designator IC?
Integrated Circuit; Manufacturer_Name: STMicroelectronics; Manufacturer_Part_Number: STP16CP05PTR; Datasheet Link: https://www.st.com/resource/en/datasheet/stp16cp05.pdf; Height: 1.73mm; Mouser Part Number: 511-STP16CP05PTR; Mouser Price/Stock: https://www.mouser.com/Search/Refine.aspx?Keyword=511-STP16CP05PTR
footprint SOP64P600X173-24N
pins: 1 GND, 2 SDI, 3 CLK, 4 LE/DM1, 5 ~{OUT0}, 6 ~{OUT1}, 7 ~{OUT2}, 8 ~{OUT3}, 9 ~{OUT4}, 10 ~{OUT5}, 11 ~{OUT6}, 12 ~{OUT7}, 13 ~{OUT8}, 14 ~{OUT9}, 15 ~{OUT10}, 16 ~{OUT11}, 17 ~{OUT12}, 18 ~{OUT13}, 19 ~{OUT14}, 20 ~{OUT15}, 21 ~{OE}/DM2, 22 SDO, 23 R-EXT, 24 VDD

## T491B107K006AT
designator C?  value 100uF  (hidden comment: T491B107K006AT)
CAP.TANTAL 100uF 6.3V 10% B CASE (3528) SMD KEMET; Manufacturer: KEMET; Manufacturer Part Number: T491B107K006AT; Supplier 1: Ozdisan
footprint TANTALIUM_BCASE
pins: 1, 2
1 alternate drawing of the same symbol

## TC-0203T-A00
designator SW?  (value not drawn)
SWITCH TACT 6.2x7. 3.85MM 100gf 90C; Manufacturer: WEALTH METAL; Manufacturer Part Number: TC-0203T-A00; Supplier 1: OZDISAN
footprint SW_TCTL_90_THT
pins: 1, 2, 3, 4

## TPD4E1U06DBVR
designator D?
DIODE TVS 45W 15V SOT23-6; Manufacturer: TEXAS; Value: *; Supplier 1: OZDISAN; Manufacturer Part Number: TPD4E1U06DBVR
footprint SOT23_6
pins: 1, 2, 3, 4, 6

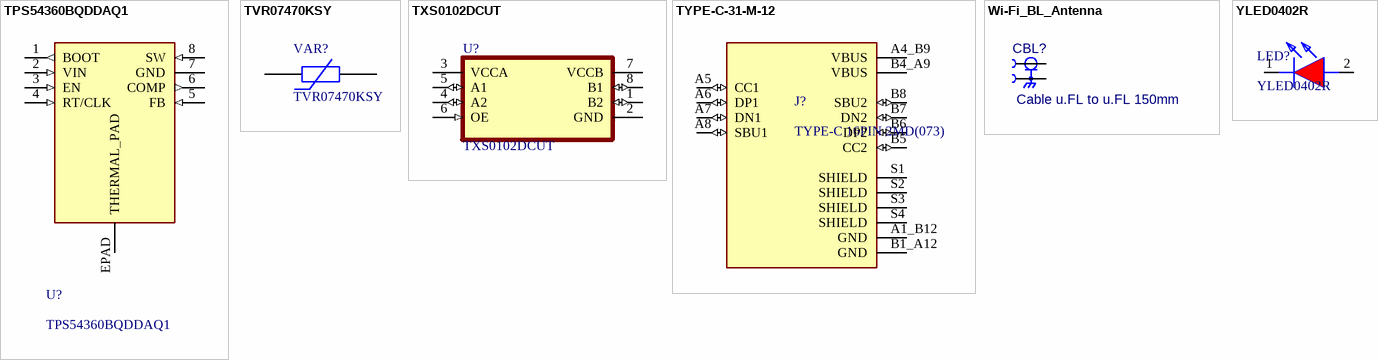
[diagram p4: symbols TPS54360BQDDAQ1 to YLED0402R]

## TPS54360BQDDAQ1
designator U?
Automotive, 60V Input, 3.5A, Step-Down DC-DC Converter With Eco-mode&trade; 8-SO PowerPAD -40 to 125; Manufacturer: Texas Instruments; Copyright: Copyright (C) 2026 Ultra Librarian. All rights reserved.; Manufacturer Part Number: TPS54360BQDDAQ1; RefDes: RefDes; Type: Type
footprint DDA8_3P1X2P4_TEX
pins: 1 BOOT (out), 2 VIN (in), 3 EN (in), 4 RT/CLK (in), 5 FB (in), 6 COMP (out), 7 GND (power), 8 SW (in), EPAD THERMAL_PAD (power)

## TVR07470KSY
designator VAR?
47 V 250 A Varistor 1 Circuit Through Hole Disc 7mm; Manufacturer: Thinking Electronics Industrial Co.; Value: *; Supplier 1: DIGIKEY; Manufacturer Part Number: TVR07470KSY
footprint VAR_DISC_7MM
pins: 1, 2

## TXS0102DCUT
designator U?
Voltage Level Translator Bidirectional 1 Circuit 2 Channel 24Mbps 8-VSSOP; Manufacturer: Texas Instruments; Value: *; Supplier 1: DIGIKEY; Manufacturer Part Number: TXS0102DCUT
footprint 8_VSSOP
pins: 1 B2 (io), 2 GND (power), 3 VCCA (power), 4 A2 (io), 5 A1 (io), 6 OE (in), 7 VCCB (power), 8 B1 (io)

## TYPE-C-31-M-12
designator J?, comment TYPE-C 16PIN 2MD(073)
CONN RCPT Type-C 16POS SMD R/A; Manufacturer: SHOU HAN; Value: *; Manufacturer Part Number: TYPE-C 16PIN 2MD(073)
footprint HRO_TYPE-C-31-M-12
pins: A1_B12 GND (power), A4_B9 VBUS (power), A5 CC1 (io), A6 DP1 (io), A7 DN1 (io), A8 SBU1 (io), B1_A12 GND (power), B4_A9 VBUS (power), B5 CC2 (io), B6 DP2 (io), B7 DN2 (io), B8 SBU2 (io), S1 SHIELD, S2 SHIELD, S3 SHIELD, S4 SHIELD

## Wi-Fi_BL_Antenna
designator CBL?, comment Cable u.FL to u.FL 150mm  (mechanical)
Cable Assembly Coaxial U.FL (UMCC) to U.FL (UMCC) 1.13mm OD Coaxial Cable 5.906" (150.00mm); Package: Coaxial IPEX MHF1 to IPEX MHF1; Value: Cable u.FL to u.FL 150mm
pins: 1, 2

## YLED0402R
designator LED?
LED RED WATER CLEAR 0402 SMD; Manufacturer: Kingbright; Value: 0402; Manufacturer Part Number: YLED0402R
footprint APHHS1005LSECKJ3PF
pins: 1 K, 2 A